# Altium schematic symbol library 0475901001.SchLib: 1 symbol
Pins are listed as number, name and electrical type; pins without a type are passive.

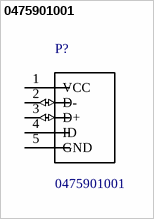
[diagram p0: symbol 0475901001]

## 0475901001
designator P?
Conn Micro USB Type AB RCP 5 POS 0.65mm Solder RA SMD 5 Terminal 1 Port Embossed T/R; MF: Molex, LLC; MP: 0475901001; SnapEDA_Link: https://www.snapeda.com/parts/0475901001/Molex%2C%20LLC/view-part/?ref=snap; Availability: Unavailable; Package: None; Price: None; Value: *
footprint MOLEX_0475901001
pins: 1 VCC (power), 2 D- (io), 3 D+ (io), 4 ID, 5 GND